# Altium schematic symbol library salih_pcb.SchLib: 54 symbols
Pins are listed as number, name and electrical type; pins without a type are passive.

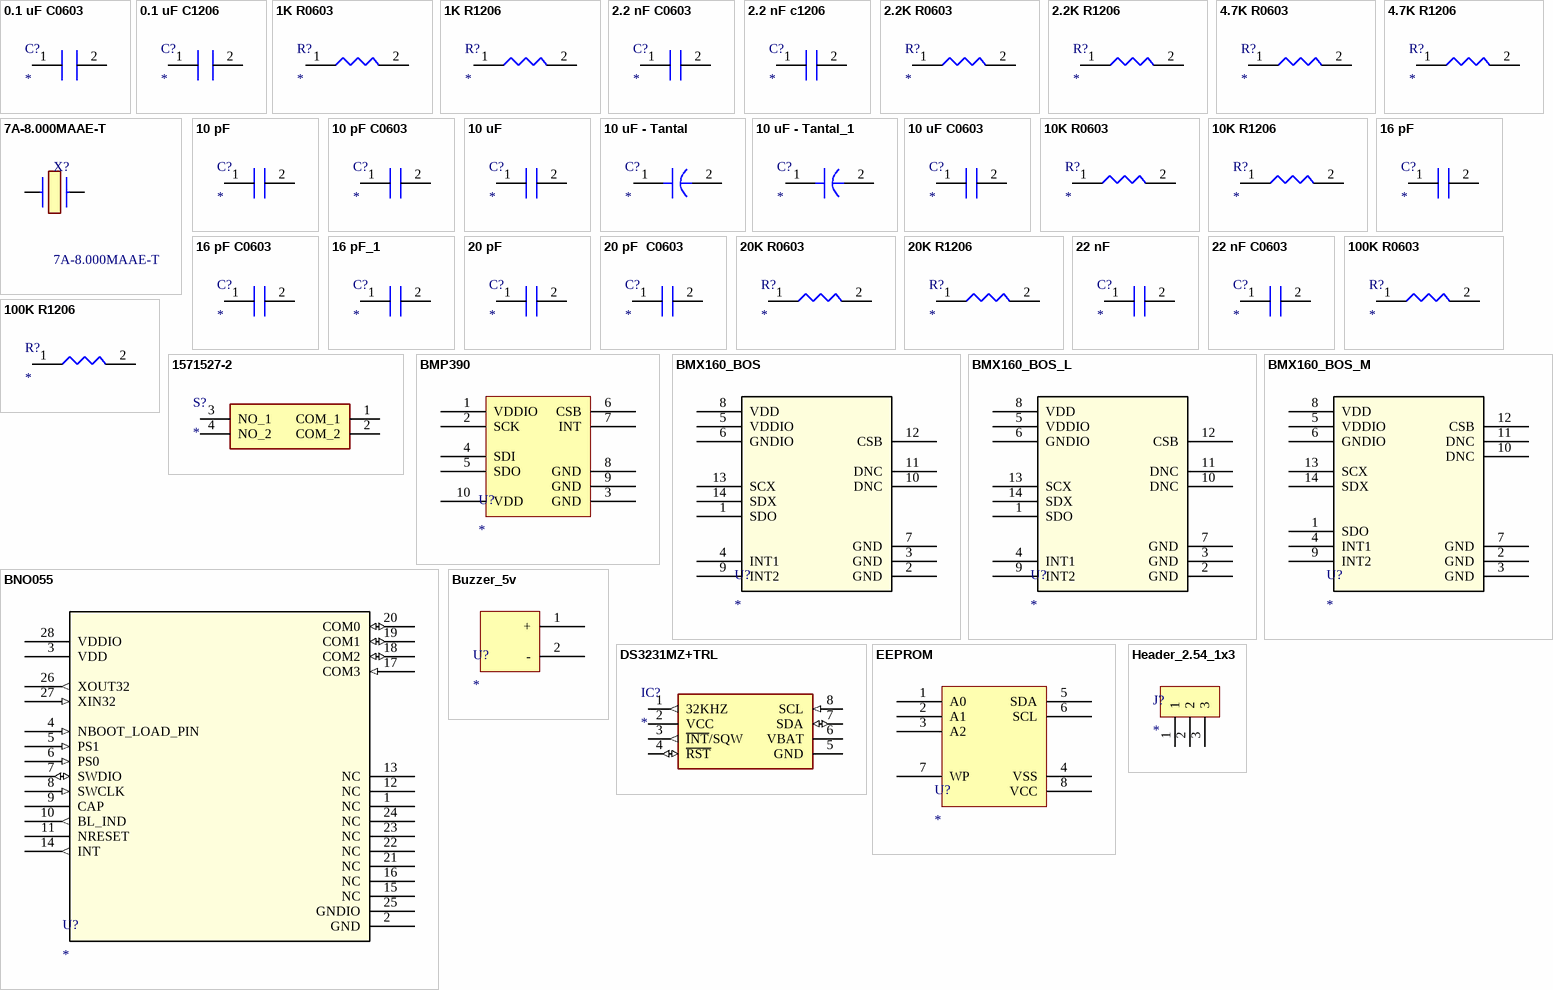
[diagram p0: symbols 0.1 uF C0603 to Header_2.54_1x3]

## 0.1 uF C0603
designator C?
Capacitor 0.1 uF C0603
footprint C0603 (Ceramic Capacitor 1206)
pins: 1, 2

## 0.1 uF C1206
designator C?
Capacitor 0.1 uF C1206
footprint C1206 (Ceramic Capacitor)
pins: 1, 2

## 1K R0603
designator R?
Resistor 1K R0603
footprint R0603 Resistor (Chip Resistor 0603)
pins: 1, 2

## 1K R1206
designator R?
Resistor 1K R1206
footprint R1206 Resıstor (Chip Resistor 1206)
pins: 1, 2

## 2.2 nF C0603
designator C?
Capacitor 2.2 nF C0603
footprint C0603 (Ceramic Capacitor 1206)
pins: 1, 2

## 2.2 nF c1206
designator C?
Capacitor 2.2 nF c1206
footprint C1206 (Ceramic Capacitor)
pins: 1, 2

## 2.2K R0603
designator R?
Resistor 2.2K R0603
footprint R0603 Resistor (Chip Resistor 0603)
pins: 1, 2

## 2.2K R1206
designator R?
Resistor 2.2K R1206
footprint R1206 Resıstor (Chip Resistor 1206)
pins: 1, 2

## 4.7K R0603
designator R?
Resistor 4.7K R0603
footprint R0603 Resistor (Chip Resistor 0603)
pins: 1, 2

## 4.7K R1206
designator R?
Resistor 4.7K R1206
footprint R1206 Resıstor (Chip Resistor 1206)
pins: 1, 2

## 7A-8.000MAAE-T
designator X?
Crystal 8MHz +/-30ppm (Tol) +/-30ppm (Stability) 12pF FUND 80Ohm 2-Pin SMD T/R; Manufacturer_Name: TXC CORPORATION; Geometry.Height: 1.35mm; Mouser Part Number: 717-7A-8.000MAAE-T; Mouser Price/Stock: https://www.mouser.co.uk/ProductDetail/TXC-Corporation/7A-8000MAAE-T?qs=2ISWkumneuG8ToeCJKRyAw%3D%3D; Manufacturer_Part_Number: 7A-8.000MAAE-T; Datasheet Link: http://www.txccorp.com/download/products/quartz_crystals/2015TXC_7A_28.pdf
footprint 7A-8.000MAAE-T
pins: 1, 2

## 10 pF
designator C?
Capacitor 10 pF C1206
footprint C1206 (Ceramic Capacitor)
pins: 1, 2

## 10 pF C0603
designator C?
Capacitor 10 pF C0603
footprint C0603 (Ceramic Capacitor 1206)
pins: 1, 2

## 10 uF
designator C?
Capacitor 10 uF C1206
footprint C1206 (Ceramic Capacitor)
pins: 1, 2

## 10 uF - Tantal
designator C?
Capacitor 10 uF - Tantal
footprint C1206- TANTAL
pins: 1, 2

## 10 uF - Tantal_1
designator C?
Capacitor 10 uF - Tantal
footprint C1206- TANTAL (Tantal Capacitor 1206)
pins: 1, 2

## 10 uF C0603
designator C?
Capacitor 10 uF C0603
footprint C0603 (Ceramic Capacitor 1206)
pins: 1, 2

## 10K R0603
designator R?
Resistor 10K R0603
footprint R0603 Resistor (Chip Resistor 0603)
pins: 1, 2

## 10K R1206
designator R?
Resistor 10K R1206
footprint R1206 Resıstor (Chip Resistor 1206)
pins: 1, 2

## 16 pF
designator C?
Capacitor 16 pF
footprint C1206
pins: 1, 2

## 16 pF C0603
designator C?
Capacitor 16 pF C0603
footprint C0603 (Ceramic Capacitor 1206)
pins: 1, 2

## 16 pF_1
designator C?
Capacitor 16 pF C1206
footprint C1206 (Ceramic Capacitor)
pins: 1, 2

## 20 pF
designator C?
Capacitor 20 pF C1206
footprint C1206 (Ceramic Capacitor)
pins: 1, 2

## 20 pF  C0603
designator C?
Capacitor 20 pF C0603
footprint C0603 (Ceramic Capacitor 1206)
pins: 1, 2

## 20K R0603
designator R?
Resistor 20K R0603
footprint R0603 Resistor (Chip Resistor 0603)
pins: 1, 2

## 20K R1206
designator R?
Resistor 20K R1206
footprint R1206 Resıstor (Chip Resistor 1206)
pins: 1, 2

## 22 nF
designator C?
Capacitor 22 nF C1206
footprint C1206 (Ceramic Capacitor)
pins: 1, 2

## 22 nF C0603
designator C?
Capacitor 22 nF C0603
footprint C0603 (Ceramic Capacitor 1206)
pins: 1, 2

## 100K R0603
designator R?
Resistor 100K R0603
footprint R0603 Resistor (Chip Resistor 0603)
pins: 1, 2

## 100K R1206
designator R?
Resistor 100K R1206
footprint R1206 Resıstor (Chip Resistor 1206)
pins: 1, 2

## 1571527-2
designator S?
Switch; Manufacturer_Name: TE Connectivity; Manufacturer_Part_Number: 1571527-2; Datasheet Link: https://www.te.com/commerce/DocumentDelivery/DDEController?Action=showdoc&DocId=Customer+Drawing%7F2-1437565-7%7FV%7Fpdf%7FEnglish%7FENG_CD_2-1437565-7_V.pdf%7F1571527-2; Height: 4.44mm; Mouser Part Number: 506-1571527-2; Mouser Price/Stock: https://www.mouser.co.uk/ProductDetail/TE-Connectivity-PB/1571527-2?qs=kSbAZawwBnwze%252BZ7aPbKIw%3D%3D; Arrow Part Number: 1571527-2; Arrow Price/Stock: https://www.arrow.com/en/products/1571527-2/te-connectivity?region=europe
footprint 15715272
pins: 1 COM_1, 2 COM_2, 3 NO_1, 4 NO_2

## BMP390
designator U?
Integrated Circuit
footprint BMP390
pins: 1 VDDIO, 2 SCK, 3 GND, 4 SDI, 5 SDO, 6 CSB, 7 INT, 8 GND, 9 GND, 10 VDD

## BMX160_BOS
designator U?
Integrated Circuit
footprint BMX160_BOS
pins: 1 SDO, 2 GND, 3 GND, 4 INT1, 5 VDDIO, 6 GNDIO, 7  GND, 8 VDD, 9 INT2, 10 DNC, 11 DNC, 12 CSB, 13 SCX, 14 SDX

## BMX160_BOS_L
designator U?
Integrated Circuit
footprint BMX160_BOS_L
pins: 1 SDO, 2 GND, 3 GND, 4 INT1, 5 VDDIO, 6 GNDIO, 7  GND, 8 VDD, 9 INT2, 10 DNC, 11 DNC, 12 CSB, 13 SCX, 14 SDX

## BMX160_BOS_M
designator U?
Integrated Circuit
footprint BMX160_BOS_M
pins: 1 SDO, 2 GND, 3 GND, 4 INT1, 5 VDDIO, 6 GNDIO, 7 GND, 8 VDD, 9 INT2, 10 DNC, 11 DNC, 12 CSB, 13 SCX, 14 SDX

## BNO055
designator U?
Integrated Circuit
footprint BNO055
pins: 1 NC, 2 GND (power), 3 VDD (power), 4 NBOOT_LOAD_PIN (in), 5 PS1 (in), 6 PS0 (in), 7 SWDIO (io), 8 SWCLK (in), 9 CAP, 10 BL_IND (out), 11 NRESET, 12 NC, 13 NC, 14 INT (out), 15 NC, 16 NC, 17 COM3 (in), 18 COM2 (io), 19 COM1 (io), 20 COM0 (io), 21 NC, 22 NC, 23 NC, 24 NC, 25 GNDIO (power), 26 XOUT32 (out), 27 XIN32 (in), 28 VDDIO (power)

## Buzzer_5v
designator U?
Integrated Circuit
footprint BUZZER 5V
pins: 1 +, 2 -

## DS3231MZ+TRL
designator IC?
Integrated Circuit; Manufacturer_Name: Analog Devices; Manufacturer_Part_Number: DS3231MZ+TRL; Datasheet Link: https://datasheet.lcsc.com/szlcsc/Maxim-Integrated-DS3231MZ_C107410.pdf; Height: 1.75mm; Mouser Part Number: 700-DS3231MZ+TRL; Mouser Price/Stock: https://www.mouser.co.uk/ProductDetail/Maxim-Integrated/DS3231MZ%2bTRL?qs=4Rc5iGDDRGgh%2Fh2%252BvSsz9A%3D%3D; Arrow Part Number: DS3231MZ+TRL; Arrow Price/Stock: https://www.arrow.com/en/products/ds3231mztrl/maxim-integrated?region=nac
footprint SOIC127P600X175-8N (Real Time Clock EXTREMELY ACCURATE RTC/TCMO/MEMS 8L)
footprint SOIC127P600X175-8N (SOIC, 8-Leads, Body 4,90x3,90mm, Pitch 1,27mm, IPC Medium Density)
pins: 1 32KHZ (out), 2 VCC (power), 3 ~{INT}/SQW (out), 4 ~{RST} (io), 5 GND (power), 6 VBAT (power), 7 SDA (io), 8 SCL (in)

## EEPROM
designator U?
24C02N DIP
footprint RTC
pins: 1 A0, 2 A1, 3 A2, 4 VSS, 5 SDA, 6 SCL, 7 WP, 8 VCC

## Header_2.54_1x3
designator J?
Connector 1x3
footprint Header 2.54 1x3
pins: 1, 2, 3

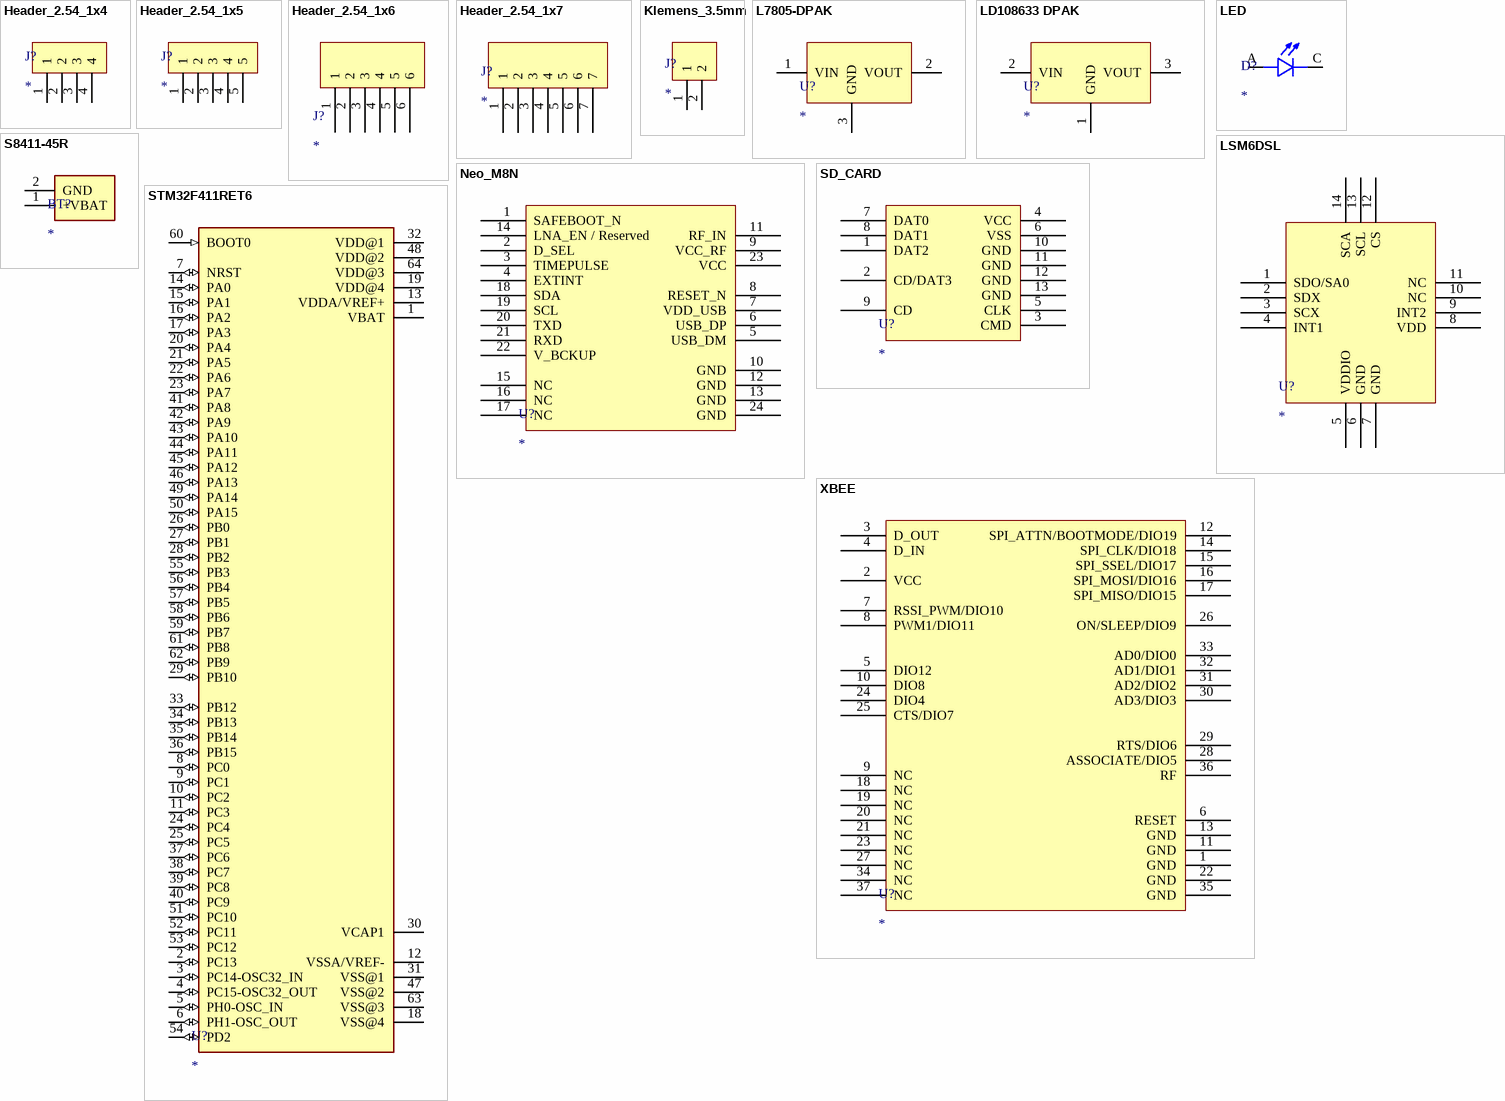
[diagram p1: symbols Header_2.54_1x4 to XBEE]

## Header_2.54_1x4
designator J?
Connector 1x4
footprint Header 2.54 1x4
pins: 1, 2, 3, 4

## Header_2.54_1x5
designator J?
Connector 1x5
footprint Header 2.54 1x5
pins: 1, 2, 3, 4, 5

## Header_2.54_1x6
designator J?
Connector 1x6
footprint HEADER 2.54 1X6
pins: 1, 2, 3, 4, 5, 6

## Header_2.54_1x7
designator J?
Connector 1x7
footprint HEADER 2.54 1x7
pins: 1, 2, 3, 4, 5, 6, 7

## Klemens_3.5mm
designator J?
Connector 1x2 3.5mm
footprint Klemens 1x2 - 3.5mm
pins: 1, 2

## L7805-DPAK
designator U?
5V REGULATOR. SMD PAKET
footprint L7805CDT-TR (IC REG LINEAR 5V 1.5A DPAK)
pins: 1 VIN, 2 VOUT, 3 GND

## LD108633 DPAK
designator U?
3.3V REGULATOR
footprint LD1086DT33TR (IC REG LINEAR 3.3V 1.5A DPAK)
pins: 1 GND, 2 VIN, 3 VOUT

## LED
designator D?
L08R5000Q1
footprint LEDRD254W57D500H1070
pins: A, C

## LSM6DSL
designator U?
Integrated Circuit GYRO
footprint LSM6DSLTR (IMU ACCEL/GYRO I2C/SPI 14LGA)
pins: 1 SDO/SA0, 2 SDX, 3 SCX, 4 INT1, 5 VDDIO, 6 GND, 7 GND, 8 VDD, 9 INT2, 10 NC, 11 NC, 12 CS, 13 SCL, 14 SCA

## Neo_M8N
designator U?
Integrated Circuit
footprint NEO_M8N
pins: 1 SAFEBOOT_N, 2 D_SEL, 3 TIMEPULSE, 4 EXTINT, 5 USB_DM, 6 USB_DP, 7 VDD_USB, 8 RESET_N, 9 VCC_RF, 10 GND, 11 RF_IN, 12 GND, 13 GND, 14 LNA_EN / Reserved, 15 NC, 16 NC, 17 NC, 18 SDA, 19 SCL, 20 TXD, 21 RXD, 22 V_BCKUP, 23 VCC, 24 GND

## S8411-45R
designator BT?
Coin Cell Battery Holder
footprint S8411-45R_1 (Coin Cell Battery Holder)
pins: 1 +VBAT, 2 GND

## SD_CARD
designator U?
L-KLS1-TF-003-H1.85-R
footprint SD_CARD (L-KLS1-TF-003-H1.85-R)
pins: 1 DAT2, 2 CD/DAT3, 3 CMD, 4 VCC, 5 CLK, 6 VSS, 7 DAT0, 8 DAT1, 9 CD, 10 GND, 11 GND, 12 GND, 13 GND

## STM32F411RET6
designator U?
Integrated Circuit
footprint STM32F411RET6
pins: 1 VBAT (power), 2 PC13 (io), 3 PC14-OSC32_IN (io), 4 PC15-OSC32_OUT (io), 5 PH0-OSC_IN (io), 6 PH1-OSC_OUT (io), 7 NRST (io), 8 PC0 (io), 9 PC1 (io), 10 PC2 (io), 11 PC3 (io), 12 VSSA/VREF- (power), 13 VDDA/VREF+ (power), 14 PA0 (io), 15 PA1 (io), 16 PA2 (io), 17 PA3 (io), 18 VSS@4 (power), 19 VDD@4 (power), 20 PA4 (io), 21 PA5 (io), 22 PA6 (io), 23 PA7 (io), 24 PC4 (io), 25 PC5 (io), 26 PB0 (io), 27 PB1 (io), 28 PB2 (io), 29 PB10 (io), 30 VCAP1, 31 VSS@1 (power), 32 VDD@1 (power), 33 PB12 (io), 34 PB13 (io), 35 PB14 (io), 36 PB15 (io), 37 PC6 (io), 38 PC7 (io), 39 PC8 (io), 40 PC9 (io), 41 PA8 (io), 42 PA9 (io), 43 PA10 (io), 44 PA11 (io), 45 PA12 (io), 46 PA13 (io), 47 VSS@2 (power), 48 VDD@2 (power), 49 PA14 (io), 50 PA15 (io), 51 PC10 (io), 52 PC11 (io), 53 PC12 (io), 54 PD2 (io), 55 PB3 (io), 56 PB4 (io), 57 PB5 (io), 58 PB6 (io), 59 PB7 (io), 60 BOOT0 (in), 61 PB8 (io), 62 PB9 (io), 63 VSS@3 (power), 64 VDD@3 (power)

## XBEE
designator U?
XB3-24Z8US-J
footprint XB3
pins: 1 GND, 2 VCC, 3 D_OUT, 4 D_IN, 5 DIO12, 6 RESET, 7 RSSI_PWM/DIO10, 8 PWM1/DIO11, 9 NC, 10 DIO8, 11 GND, 12 SPI_ATTN/BOOTMODE/DIO19, 13 GND, 14 SPI_CLK/DIO18, 15 SPI_SSEL/DIO17, 16 SPI_MOSI/DIO16, 17 SPI_MISO/DIO15, 18 NC, 19 NC, 20 NC, 21 NC, 22 GND, 23 NC, 24 DIO4, 25 CTS/DIO7, 26 ON/SLEEP/DIO9, 27 NC, 28 ASSOCIATE/DIO5, 29 RTS/DIO6, 30 AD3/DIO3, 31 AD2/DIO2, 32 AD1/DIO1, 33 AD0/DIO0, 34 NC, 35 GND, 36 RF, 37 NC